# EAGLE library part LINEAR,LIMITING-AMP:SY88953L(10.7GHZ) (library QuantumOptics)
SY88953L, Micrel, limiting amplifier, 10.7GHz, MLF-16. IMPORTANT!, exposed pad must be connected to the ground plane! http://www.micrel.com/_PDF/HBW/sy88953l.pdf#page=2
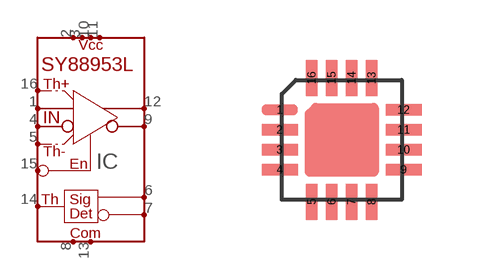
[diagram p73: symbol with the pads of MLF-16; footprint MLF-16]

Designator prefix IC

## LINEAR,LIMITING-AMP:SY88953L(10.7GHZ)  [MLF-16]
1  IN+  in
2  VCC1
3  VCC2
4  IN-  in
5  VTHN  in
6  SD+  out
7  SD-  out
8  COM1
9  OUT-  out
10  VCC3
11  VCC4
12  OUT+  out
13  COM2
14  SDLVL  in
15  /EN  in
16  VTHP  in

## Footprint MLF-16 (pad centres in mm)
MLF-16, Micro Lead Frame with 16 pins. NOTE: Must connect centre pad to bottom ground plane with at least 4 vias! Use grid of 0.5mm or 0.02". Based on Micrel SY88953L <http://www.micrel.com/_PDF/HBW/sy88953l.pdf#page=2>, http://www.micrel.com/_PDF/HBW/sy88953l.pdf#page=2
smd 0.9 x 0.29: 1 0,0; 2 0,-0.5; 3 0,-1; 4 0,-1.5; 9 3.1,-1.5; 10 3.1,-1; 11 3.1,-0.5; 12 3.1,0
smd 0.29 x 0.9: 5 0.8,-2.3; 6 1.3,-2.3; 7 1.8,-2.3; 8 2.3,-2.3; 13 2.3,0.8; 14 1.8,0.8; 15 1.3,0.8; 16 0.8,0.8